# EAGLE library part MC3X063 (library cube-sat)
Buck Regulator, 1.5A output, 0-40V input voltage range, adjustable output voltage
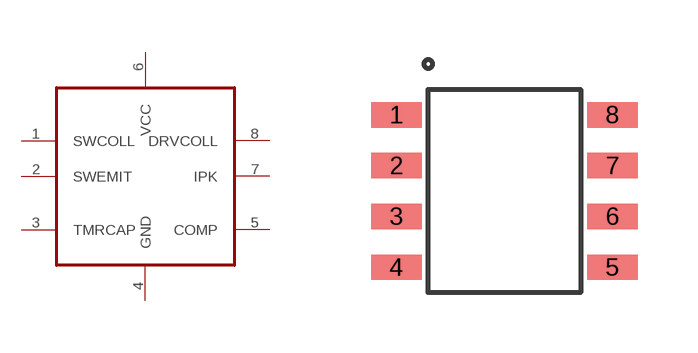
[diagram p0: symbol with the pads of MC3X063; footprint MC3X063]

Designator prefix -

## MC3X063 (DISTPART: 296-17765-6-ND; DISTRIBUTOR: Digi-Key; MANUFACTURER: Texas Instruments; MFGPART: MC3X063)  [MC3X063]
1  SWCOLL
2  SWEMIT
3  TMRCAP
4  GND  pas
5  COMP
6  VCC  pas
7  IPK
8  DRVCOLL

## Footprint MC3X063 (pad centres in mm)
8-PIN SOIC, 1.27 mm pitch
smd 1.27 x 0.635: 1 -2.7,1.905; 2 -2.7,0.635; 3 -2.7,-0.635; 4 -2.7,-1.905; 5 2.7,-1.905; 6 2.7,-0.635; 7 2.7,0.635; 8 2.7,1.905